# Altium footprint library BitCoin.PcbLib: 13 footprints
Each footprint in its own frame and in the unit in brackets; x right, y up, seen from the top. Pads: shape width x height; smd on the part's side, far side on the other; paste and mask are expansions set on the pad; w line width, h text height; cw(c..) or ccw(c..) is an arc to the next point about the centre after c.
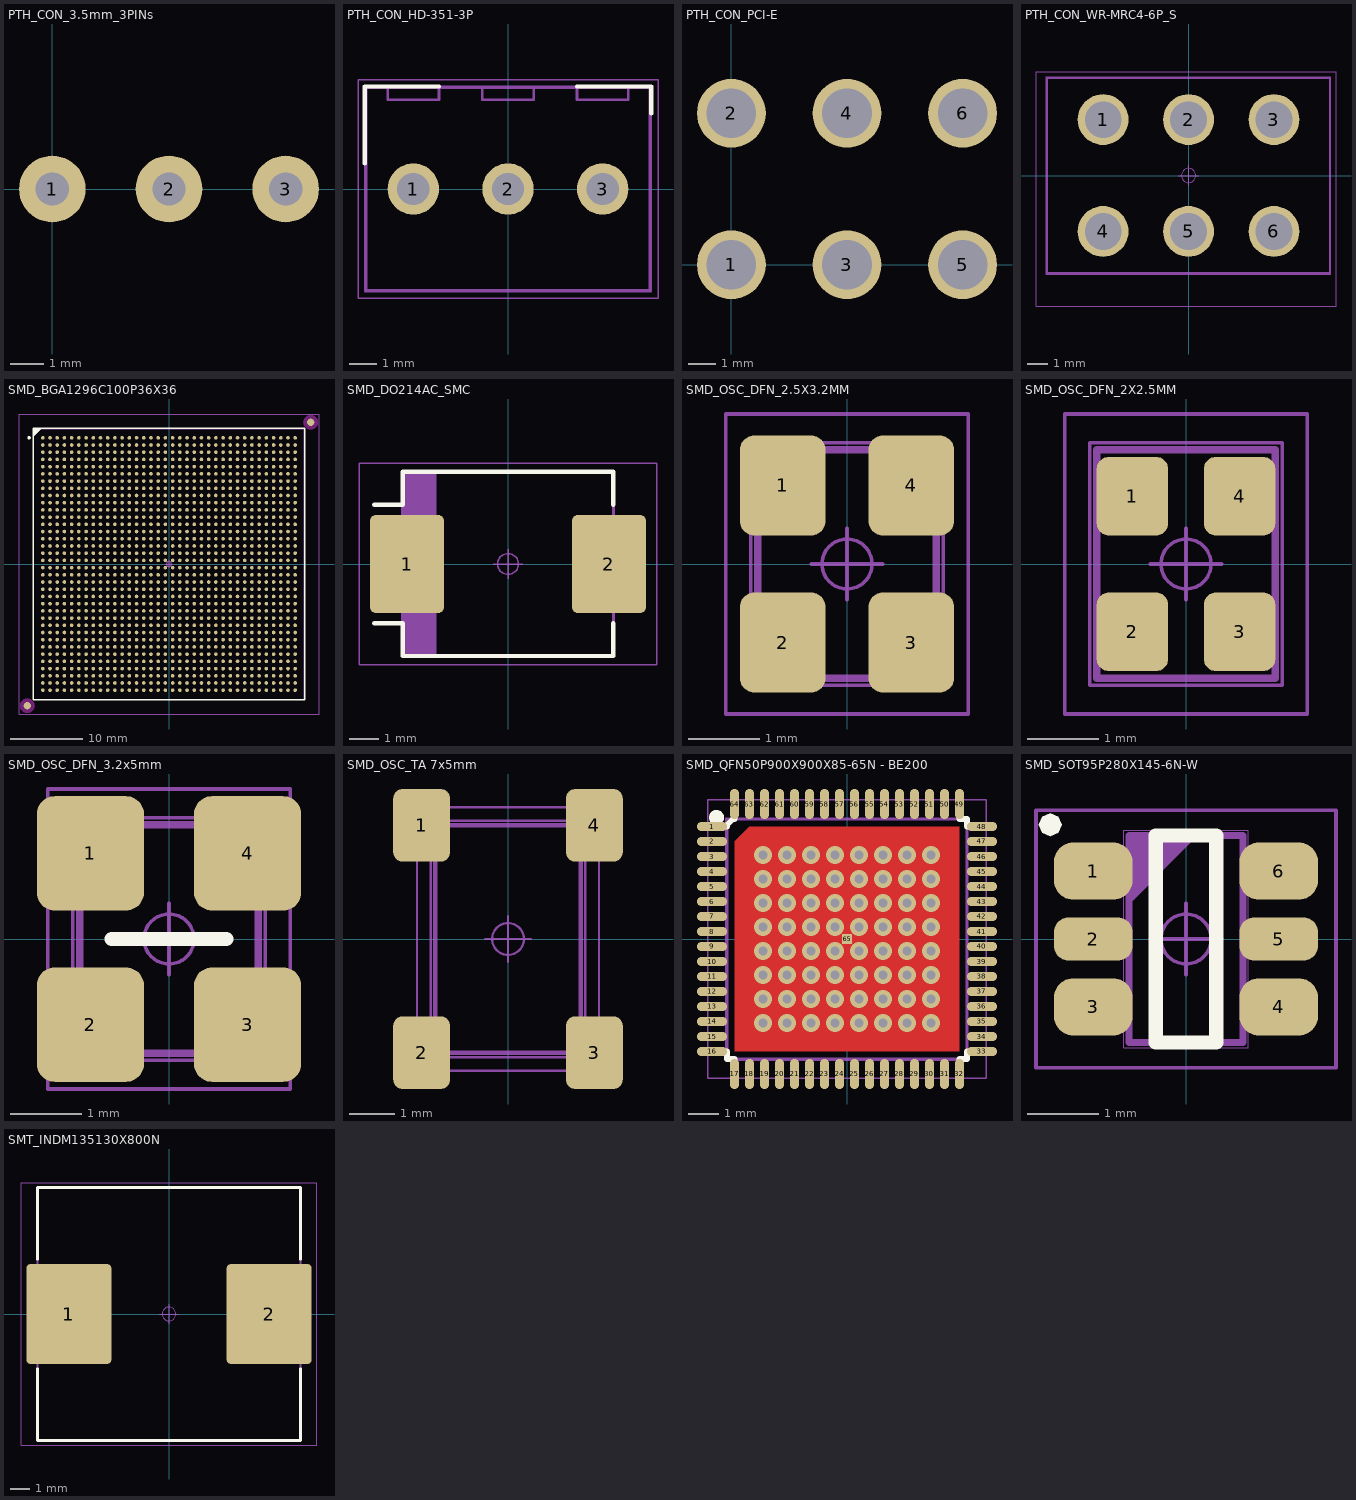
[diagram p0: the footprints below, top view; thin cyan lines are the x and y axes]

## PTH_CON_3.5mm_3PINs [mm]
pads (3):
  round 2 hole 1: 1(0,0) 2(3.5,0) 3(7,0)

## PTH_CON_HD-351-3P [mm]
height 8.6
pads (3):
  round 1.9 hole 1.2 mask+0.075: 1(-3.5,0) 2(0,0) 3(3.5,0)
Top Overlay:
  lines w0.15: -5.3,0.95 -5.3,3.8 -2.55,3.8 ; 2.55,3.8 5.3,3.8 5.3,2.8
Mechanical 3:
  lines w0.1: -5.25,-3.75 -5.25,3.75 5.25,3.75 5.25,-3.75 -5.25,-3.75 ; -4.45,3.3 -4.45,3.75 -2.55,3.75 -2.55,3.3 -4.45,3.3 ; -0.95,3.3 -0.95,3.75 0.95,3.75 0.95,3.3 -0.95,3.3 ; 2.55,3.3 2.55,3.75 4.45,3.75 4.45,3.3 2.55,3.3
  text ".Designator" at 0,-0.01 h1
  text "3" at 4.633,-0.3 h0.5
  text "1" at -4.91,-0.3 h0.5
Mechanical 13:
  lines w0.05: -5.3,-3.8 -5.3,3.8 5.3,3.8 5.3,-3.8 -5.3,-3.8
Mechanical 15:
  circle w0.05: c0,0 r0.3
  lines w0.05: -0.5,0 0.5,0 ; 0,-0.5 0,0.5 ; -5.55,-4.05 -5.55,4.05 5.55,4.05 5.55,-4.05 -5.55,-4.05
3D body: height 8.7, standoff -3.5, extent -5.25,-3.75 5.25,3.75

## PTH_CON_PCI-E [mm]
pads (6):
  round 2.5 hole 1.8 mask+0.075: 1(0,0) 2(0,5.5) 3(4.2,0) 4(4.2,5.5) 5(8.4,0) 6(8.4,5.5)
3D body: height 6.2, standoff -8.8, extent -3,-0.7 11.175,19.27

## PTH_CON_WR-MRC4-6P_S [mm]
height 10
pads (6):
  round 2.5 hole 1.8 mask+0.075: 1(-4.2,2.75) 2(0,2.75) 3(4.2,2.75) 4(-4.2,-2.75) 5(0,-2.75) 6(4.2,-2.75)
Mechanical 3:
  lines w0.1: -6.95,-4.8 -6.95,4.802 6.95,4.802 6.95,-4.8 -6.95,-4.8
  text "4" at -6.029,-2.55 h0.5
  text "3" at 5.583,2.4 h0.5
  text "6" at 5.595,-2.55 h0.5
  text "1" at -5.91,2.4 h0.5
  text ".Designator" at 0,0 h1
Mechanical 13:
  lines w0.05: -7,-4.85 -7,4.85 7,4.85 7,-4.85 -7,-4.85
Mechanical 15:
  circle w0.05: c0,0 r0.35
  lines w0.05: -0.5,0 0.5,0 ; 0,-0.5 0,0.5 ; -7.5,-6.425 -7.5,5.1 7.25,5.1 7.25,-6.425 -7.5,-6.425
3D body: height 12.8, standoff -3.5, extent -7.246,-6.298 6.95,4.802

## SMD_BGA1296C100P36X36 [mm]
height 1.4
pads (1298):
  round 0.5 smd mask+0.05: A1(-17.5,17.5) A2(-16.5,17.5) A3(-15.5,17.5) A4(-14.5,17.5) A5(-13.5,17.5) A6(-12.5,17.5) A7(-11.5,17.5) A8(-10.5,17.5) A9(-9.5,17.5) A10(-8.5,17.5) A11(-7.5,17.5) A12(-6.5,17.5) A13(-5.5,17.5) A14(-4.5,17.5) A15(-3.5,17.5) A16(-2.5,17.5) A17(-1.5,17.5) A18(-0.5,17.5) A19(0.5,17.5) A20(1.5,17.5) A21(2.5,17.5) A22(3.5,17.5) A23(4.5,17.5) A24(5.5,17.5) A25(6.5,17.5) A26(7.5,17.5) A27(8.5,17.5) A28(9.5,17.5) A29(10.5,17.5) A30(11.5,17.5) A31(12.5,17.5) A32(13.5,17.5) A33(14.5,17.5) A34(15.5,17.5) A35(16.5,17.5) A36(17.5,17.5) AA1(-17.5,-2.5) AA2(-16.5,-2.5) AA3(-15.5,-2.5) AA4(-14.5,-2.5) AA5(-13.5,-2.5) AA6(-12.5,-2.5) AA7(-11.5,-2.5) AA8(-10.5,-2.5) AA9(-9.5,-2.5) AA10(-8.5,-2.5) AA11(-7.5,-2.5) AA12(-6.5,-2.5) AA13(-5.5,-2.5) AA14(-4.5,-2.5) AA15(-3.5,-2.5) AA16(-2.5,-2.5) AA17(-1.5,-2.5) AA18(-0.5,-2.5) AA19(0.5,-2.5) AA20(1.5,-2.5) AA21(2.5,-2.5) AA22(3.5,-2.5) AA23(4.5,-2.5) AA24(5.5,-2.5) AA25(6.5,-2.5) AA26(7.5,-2.5) AA27(8.5,-2.5) AA28(9.5,-2.5) AA29(10.5,-2.5) AA30(11.5,-2.5) AA31(12.5,-2.5) AA32(13.5,-2.5) AA33(14.5,-2.5) AA34(15.5,-2.5) AA35(16.5,-2.5) AA36(17.5,-2.5) AB1(-17.5,-3.5) AB2(-16.5,-3.5) AB3(-15.5,-3.5) AB4(-14.5,-3.5) AB5(-13.5,-3.5) AB6(-12.5,-3.5) AB7(-11.5,-3.5) AB8(-10.5,-3.5) AB9(-9.5,-3.5) AB10(-8.5,-3.5) AB11(-7.5,-3.5) AB12(-6.5,-3.5) AB13(-5.5,-3.5) AB14(-4.5,-3.5) AB15(-3.5,-3.5) AB16(-2.5,-3.5) AB17(-1.5,-3.5) AB18(-0.5,-3.5) AB19(0.5,-3.5) AB20(1.5,-3.5) AB21(2.5,-3.5) AB22(3.5,-3.5) AB23(4.5,-3.5) AB24(5.5,-3.5) AB25(6.5,-3.5) AB26(7.5,-3.5) AB27(8.5,-3.5) AB28(9.5,-3.5) AB29(10.5,-3.5) AB30(11.5,-3.5) AB31(12.5,-3.5) AB32(13.5,-3.5) AB33(14.5,-3.5) AB34(15.5,-3.5) AB35(16.5,-3.5) AB36(17.5,-3.5) AC1(-17.5,-4.5) AC2(-16.5,-4.5) AC3(-15.5,-4.5) AC4(-14.5,-4.5) AC5(-13.5,-4.5) AC6(-12.5,-4.5) AC7(-11.5,-4.5) AC8(-10.5,-4.5) AC9(-9.5,-4.5) AC10(-8.5,-4.5) AC11(-7.5,-4.5) AC12(-6.5,-4.5) AC13(-5.5,-4.5) AC14(-4.5,-4.5) AC15(-3.5,-4.5) AC16(-2.5,-4.5) AC17(-1.5,-4.5) AC18(-0.5,-4.5) AC19(0.5,-4.5) AC20(1.5,-4.5) AC21(2.5,-4.5) AC22(3.5,-4.5) AC23(4.5,-4.5) AC24(5.5,-4.5) AC25(6.5,-4.5) AC26(7.5,-4.5) AC27(8.5,-4.5) AC28(9.5,-4.5) AC29(10.5,-4.5) AC30(11.5,-4.5) AC31(12.5,-4.5) AC32(13.5,-4.5) AC33(14.5,-4.5) AC34(15.5,-4.5) AC35(16.5,-4.5) AC36(17.5,-4.5) AD1(-17.5,-5.5) AD2(-16.5,-5.5) AD3(-15.5,-5.5) AD4(-14.5,-5.5) AD5(-13.5,-5.5) AD6(-12.5,-5.5) AD7(-11.5,-5.5) AD8(-10.5,-5.5) AD9(-9.5,-5.5) AD10(-8.5,-5.5) AD11(-7.5,-5.5) AD12(-6.5,-5.5) AD13(-5.5,-5.5) AD14(-4.5,-5.5) AD15(-3.5,-5.5) AD16(-2.5,-5.5) AD17(-1.5,-5.5) AD18(-0.5,-5.5) AD19(0.5,-5.5) AD20(1.5,-5.5) AD21(2.5,-5.5) AD22(3.5,-5.5) AD23(4.5,-5.5) AD24(5.5,-5.5) AD25(6.5,-5.5) AD26(7.5,-5.5) AD27(8.5,-5.5) AD28(9.5,-5.5) AD29(10.5,-5.5) AD30(11.5,-5.5) AD31(12.5,-5.5) AD32(13.5,-5.5) AD33(14.5,-5.5) AD34(15.5,-5.5) AD35(16.5,-5.5) AD36(17.5,-5.5) AE1(-17.5,-6.5) AE2(-16.5,-6.5) AE3(-15.5,-6.5) AE4(-14.5,-6.5) AE5(-13.5,-6.5) AE6(-12.5,-6.5) AE7(-11.5,-6.5) AE8(-10.5,-6.5) AE9(-9.5,-6.5) AE10(-8.5,-6.5) AE11(-7.5,-6.5) AE12(-6.5,-6.5) AE13(-5.5,-6.5) AE14(-4.5,-6.5) AE15(-3.5,-6.5) AE16(-2.5,-6.5) AE17(-1.5,-6.5) AE18(-0.5,-6.5) AE19(0.5,-6.5) AE20(1.5,-6.5) AE21(2.5,-6.5) AE22(3.5,-6.5) AE23(4.5,-6.5) AE24(5.5,-6.5) AE25(6.5,-6.5) AE26(7.5,-6.5) AE27(8.5,-6.5) AE28(9.5,-6.5) AE29(10.5,-6.5) AE30(11.5,-6.5) AE31(12.5,-6.5) AE32(13.5,-6.5) AE33(14.5,-6.5) AE34(15.5,-6.5) AE35(16.5,-6.5) AE36(17.5,-6.5) AF1(-17.5,-7.5) AF2(-16.5,-7.5) AF3(-15.5,-7.5) AF4(-14.5,-7.5) AF5(-13.5,-7.5) AF6(-12.5,-7.5) AF7(-11.5,-7.5) AF8(-10.5,-7.5) AF9(-9.5,-7.5) AF10(-8.5,-7.5) AF11(-7.5,-7.5) AF12(-6.5,-7.5) AF13(-5.5,-7.5) AF14(-4.5,-7.5) AF15(-3.5,-7.5) AF16(-2.5,-7.5) AF17(-1.5,-7.5) AF18(-0.5,-7.5) AF19(0.5,-7.5) AF20(1.5,-7.5) AF21(2.5,-7.5) AF22(3.5,-7.5) AF23(4.5,-7.5) AF24(5.5,-7.5) AF25(6.5,-7.5) AF26(7.5,-7.5) AF27(8.5,-7.5) AF28(9.5,-7.5) AF29(10.5,-7.5) AF30(11.5,-7.5) AF31(12.5,-7.5) AF32(13.5,-7.5) AF33(14.5,-7.5) AF34(15.5,-7.5) AF35(16.5,-7.5) AF36(17.5,-7.5) AG1(-17.5,-8.5) AG2(-16.5,-8.5) AG3(-15.5,-8.5) AG4(-14.5,-8.5) AG5(-13.5,-8.5) AG6(-12.5,-8.5) AG7(-11.5,-8.5) AG8(-10.5,-8.5) AG9(-9.5,-8.5) AG10(-8.5,-8.5) AG11(-7.5,-8.5) AG12(-6.5,-8.5) AG13(-5.5,-8.5) AG14(-4.5,-8.5) AG15(-3.5,-8.5) AG16(-2.5,-8.5) AG17(-1.5,-8.5) AG18(-0.5,-8.5) AG19(0.5,-8.5) AG20(1.5,-8.5) AG21(2.5,-8.5) AG22(3.5,-8.5) AG23(4.5,-8.5) AG24(5.5,-8.5) AG25(6.5,-8.5) AG26(7.5,-8.5) AG27(8.5,-8.5) AG28(9.5,-8.5) AG29(10.5,-8.5) AG30(11.5,-8.5) AG31(12.5,-8.5) AG32(13.5,-8.5) AG33(14.5,-8.5) AG34(15.5,-8.5) AG35(16.5,-8.5) AG36(17.5,-8.5) AH1(-17.5,-9.5) AH2(-16.5,-9.5) AH3(-15.5,-9.5) AH4(-14.5,-9.5) AH5(-13.5,-9.5) AH6(-12.5,-9.5) AH7(-11.5,-9.5) AH8(-10.5,-9.5) AH9(-9.5,-9.5) AH10(-8.5,-9.5) AH11(-7.5,-9.5) AH12(-6.5,-9.5) AH13(-5.5,-9.5) AH14(-4.5,-9.5) AH15(-3.5,-9.5) AH16(-2.5,-9.5) AH17(-1.5,-9.5) AH18(-0.5,-9.5) AH19(0.5,-9.5) AH20(1.5,-9.5) AH21(2.5,-9.5) AH22(3.5,-9.5) AH23(4.5,-9.5) AH24(5.5,-9.5) AH25(6.5,-9.5) AH26(7.5,-9.5) AH27(8.5,-9.5) AH28(9.5,-9.5) AH29(10.5,-9.5) AH30(11.5,-9.5) AH31(12.5,-9.5) AH32(13.5,-9.5) AH33(14.5,-9.5) AH34(15.5,-9.5) AH35(16.5,-9.5) AH36(17.5,-9.5) AJ1(-17.5,-10.5) AJ2(-16.5,-10.5) AJ3(-15.5,-10.5) AJ4(-14.5,-10.5) AJ5(-13.5,-10.5) AJ6(-12.5,-10.5) AJ7(-11.5,-10.5) AJ8(-10.5,-10.5) AJ9(-9.5,-10.5) AJ10(-8.5,-10.5) AJ11(-7.5,-10.5) AJ12(-6.5,-10.5) AJ13(-5.5,-10.5) AJ14(-4.5,-10.5) AJ15(-3.5,-10.5) AJ16(-2.5,-10.5) AJ17(-1.5,-10.5) AJ18(-0.5,-10.5) AJ19(0.5,-10.5) AJ20(1.5,-10.5) AJ21(2.5,-10.5) AJ22(3.5,-10.5) AJ23(4.5,-10.5) AJ24(5.5,-10.5) AJ25(6.5,-10.5) AJ26(7.5,-10.5) AJ27(8.5,-10.5) AJ28(9.5,-10.5) AJ29(10.5,-10.5) AJ30(11.5,-10.5) AJ31(12.5,-10.5) AJ32(13.5,-10.5) AJ33(14.5,-10.5) AJ34(15.5,-10.5) AJ35(16.5,-10.5) AJ36(17.5,-10.5) AK1(-17.5,-11.5) AK2(-16.5,-11.5) AK3(-15.5,-11.5) AK4(-14.5,-11.5) AK5(-13.5,-11.5) AK6(-12.5,-11.5) AK7(-11.5,-11.5) AK8(-10.5,-11.5) AK9(-9.5,-11.5) AK10(-8.5,-11.5) AK11(-7.5,-11.5) AK12(-6.5,-11.5) AK13(-5.5,-11.5) AK14(-4.5,-11.5) AK15(-3.5,-11.5) AK16(-2.5,-11.5) AK17(-1.5,-11.5) AK18(-0.5,-11.5) AK19(0.5,-11.5) AK20(1.5,-11.5) AK21(2.5,-11.5) AK22(3.5,-11.5) AK23(4.5,-11.5) AK24(5.5,-11.5) AK25(6.5,-11.5) AK26(7.5,-11.5) AK27(8.5,-11.5) AK28(9.5,-11.5) AK29(10.5,-11.5) AK30(11.5,-11.5) AK31(12.5,-11.5) AK32(13.5,-11.5) AK33(14.5,-11.5) AK34(15.5,-11.5) AK35(16.5,-11.5) AK36(17.5,-11.5) AL1(-17.5,-12.5) AL2(-16.5,-12.5) AL3(-15.5,-12.5) AL4(-14.5,-12.5) AL5(-13.5,-12.5) AL6(-12.5,-12.5) AL7(-11.5,-12.5) AL8(-10.5,-12.5) AL9(-9.5,-12.5) AL10(-8.5,-12.5) AL11(-7.5,-12.5) AL12(-6.5,-12.5) AL13(-5.5,-12.5) AL14(-4.5,-12.5) AL15(-3.5,-12.5) AL16(-2.5,-12.5) AL17(-1.5,-12.5) AL18(-0.5,-12.5) AL19(0.5,-12.5) AL20(1.5,-12.5) AL21(2.5,-12.5) AL22(3.5,-12.5) AL23(4.5,-12.5) AL24(5.5,-12.5) AL25(6.5,-12.5) AL26(7.5,-12.5) AL27(8.5,-12.5) AL28(9.5,-12.5) AL29(10.5,-12.5) AL30(11.5,-12.5) AL31(12.5,-12.5) AL32(13.5,-12.5) AL33(14.5,-12.5) AL34(15.5,-12.5) AL35(16.5,-12.5) AL36(17.5,-12.5) AM1(-17.5,-13.5) AM2(-16.5,-13.5) AM3(-15.5,-13.5) AM4(-14.5,-13.5) AM5(-13.5,-13.5) AM6(-12.5,-13.5) AM7(-11.5,-13.5) AM8(-10.5,-13.5) AM9(-9.5,-13.5) AM10(-8.5,-13.5) AM11(-7.5,-13.5) AM12(-6.5,-13.5) AM13(-5.5,-13.5) AM14(-4.5,-13.5) AM15(-3.5,-13.5) AM16(-2.5,-13.5) AM17(-1.5,-13.5) AM18(-0.5,-13.5) AM19(0.5,-13.5) AM20(1.5,-13.5) AM21(2.5,-13.5) AM22(3.5,-13.5) AM23(4.5,-13.5) AM24(5.5,-13.5) AM25(6.5,-13.5) AM26(7.5,-13.5) AM27(8.5,-13.5) AM28(9.5,-13.5) AM29(10.5,-13.5) AM30(11.5,-13.5) AM31(12.5,-13.5) AM32(13.5,-13.5) AM33(14.5,-13.5) AM34(15.5,-13.5) AM35(16.5,-13.5) AM36(17.5,-13.5) AN1(-17.5,-14.5) AN2(-16.5,-14.5) AN3(-15.5,-14.5) AN4(-14.5,-14.5) AN5(-13.5,-14.5) AN6(-12.5,-14.5) AN7(-11.5,-14.5) AN8(-10.5,-14.5) AN9(-9.5,-14.5) AN10(-8.5,-14.5) AN11(-7.5,-14.5) AN12(-6.5,-14.5) AN13(-5.5,-14.5) AN14(-4.5,-14.5) AN15(-3.5,-14.5) AN16(-2.5,-14.5) AN17(-1.5,-14.5) AN18(-0.5,-14.5) AN19(0.5,-14.5) AN20(1.5,-14.5) AN21(2.5,-14.5) AN22(3.5,-14.5) AN23(4.5,-14.5) AN24(5.5,-14.5) AN25(6.5,-14.5) AN26(7.5,-14.5) AN27(8.5,-14.5) AN28(9.5,-14.5) AN29(10.5,-14.5) AN30(11.5,-14.5) AN31(12.5,-14.5) AN32(13.5,-14.5) AN33(14.5,-14.5) AN34(15.5,-14.5) AN35(16.5,-14.5) AN36(17.5,-14.5) AP1(-17.5,-15.5) AP2(-16.5,-15.5) AP3(-15.5,-15.5) AP4(-14.5,-15.5) AP5(-13.5,-15.5) AP6(-12.5,-15.5) AP7(-11.5,-15.5) AP8(-10.5,-15.5) AP9(-9.5,-15.5) AP10(-8.5,-15.5) AP11(-7.5,-15.5) AP12(-6.5,-15.5) AP13(-5.5,-15.5) AP14(-4.5,-15.5) AP15(-3.5,-15.5) AP16(-2.5,-15.5) AP17(-1.5,-15.5) AP18(-0.5,-15.5) AP19(0.5,-15.5) AP20(1.5,-15.5) AP21(2.5,-15.5) AP22(3.5,-15.5) AP23(4.5,-15.5) AP24(5.5,-15.5) AP25(6.5,-15.5) AP26(7.5,-15.5) AP27(8.5,-15.5) AP28(9.5,-15.5) AP29(10.5,-15.5) AP30(11.5,-15.5) AP31(12.5,-15.5) AP32(13.5,-15.5) AP33(14.5,-15.5) AP34(15.5,-15.5) AP35(16.5,-15.5) AP36(17.5,-15.5) AR1(-17.5,-16.5) AR2(-16.5,-16.5) AR3(-15.5,-16.5) AR4(-14.5,-16.5) AR5(-13.5,-16.5) AR6(-12.5,-16.5) AR7(-11.5,-16.5) AR8(-10.5,-16.5) AR9(-9.5,-16.5) AR10(-8.5,-16.5) AR11(-7.5,-16.5) AR12(-6.5,-16.5) AR13(-5.5,-16.5) AR14(-4.5,-16.5) AR15(-3.5,-16.5) AR16(-2.5,-16.5) AR17(-1.5,-16.5) AR18(-0.5,-16.5) AR19(0.5,-16.5) AR20(1.5,-16.5) AR21(2.5,-16.5) AR22(3.5,-16.5) AR23(4.5,-16.5) AR24(5.5,-16.5) AR25(6.5,-16.5) AR26(7.5,-16.5) AR27(8.5,-16.5) AR28(9.5,-16.5) AR29(10.5,-16.5) AR30(11.5,-16.5) AR31(12.5,-16.5) AR32(13.5,-16.5) AR33(14.5,-16.5) AR34(15.5,-16.5) AR35(16.5,-16.5) AR36(17.5,-16.5) AT1(-17.5,-17.5) AT2(-16.5,-17.5) AT3(-15.5,-17.5) AT4(-14.5,-17.5) AT5(-13.5,-17.5) AT6(-12.5,-17.5) AT7(-11.5,-17.5) AT8(-10.5,-17.5) AT9(-9.5,-17.5) AT10(-8.5,-17.5) AT11(-7.5,-17.5) AT12(-6.5,-17.5) AT13(-5.5,-17.5) AT14(-4.5,-17.5) AT15(-3.5,-17.5) AT16(-2.5,-17.5) AT17(-1.5,-17.5) AT18(-0.5,-17.5) AT19(0.5,-17.5) AT20(1.5,-17.5) AT21(2.5,-17.5) AT22(3.5,-17.5) AT23(4.5,-17.5) AT24(5.5,-17.5) AT25(6.5,-17.5) AT26(7.5,-17.5) AT27(8.5,-17.5) AT28(9.5,-17.5) AT29(10.5,-17.5) AT30(11.5,-17.5) AT31(12.5,-17.5) AT32(13.5,-17.5) AT33(14.5,-17.5) AT34(15.5,-17.5) AT35(16.5,-17.5) AT36(17.5,-17.5) B1(-17.5,16.5) B2(-16.5,16.5) B3(-15.5,16.5) B4(-14.5,16.5) B5(-13.5,16.5) B6(-12.5,16.5) B7(-11.5,16.5) B8(-10.5,16.5) B9(-9.5,16.5) B10(-8.5,16.5) B11(-7.5,16.5) B12(-6.5,16.5) B13(-5.5,16.5) B14(-4.5,16.5) B15(-3.5,16.5) B16(-2.5,16.5) B17(-1.5,16.5) B18(-0.5,16.5) B19(0.5,16.5) B20(1.5,16.5) B21(2.5,16.5) B22(3.5,16.5) B23(4.5,16.5) B24(5.5,16.5) B25(6.5,16.5) B26(7.5,16.5) B27(8.5,16.5) B28(9.5,16.5) B29(10.5,16.5) B30(11.5,16.5) B31(12.5,16.5) B32(13.5,16.5) B33(14.5,16.5) B34(15.5,16.5) B35(16.5,16.5) B36(17.5,16.5) C1(-17.5,15.5) C2(-16.5,15.5) C3(-15.5,15.5) C4(-14.5,15.5) C5(-13.5,15.5) C6(-12.5,15.5) C7(-11.5,15.5) C8(-10.5,15.5) C9(-9.5,15.5) C10(-8.5,15.5) C11(-7.5,15.5) C12(-6.5,15.5) C13(-5.5,15.5) C14(-4.5,15.5) C15(-3.5,15.5) C16(-2.5,15.5) C17(-1.5,15.5) C18(-0.5,15.5) C19(0.5,15.5) C20(1.5,15.5) C21(2.5,15.5) C22(3.5,15.5) C23(4.5,15.5) C24(5.5,15.5) C25(6.5,15.5) C26(7.5,15.5) C27(8.5,15.5) C28(9.5,15.5) C29(10.5,15.5) C30(11.5,15.5) C31(12.5,15.5) C32(13.5,15.5) C33(14.5,15.5) C34(15.5,15.5) C35(16.5,15.5) C36(17.5,15.5) D1(-17.5,14.5) D2(-16.5,14.5) D3(-15.5,14.5) D4(-14.5,14.5) D5(-13.5,14.5) D6(-12.5,14.5) D7(-11.5,14.5) D8(-10.5,14.5) D9(-9.5,14.5) D10(-8.5,14.5) D11(-7.5,14.5) D12(-6.5,14.5) D13(-5.5,14.5) D14(-4.5,14.5) D15(-3.5,14.5) D16(-2.5,14.5) D17(-1.5,14.5) D18(-0.5,14.5) D19(0.5,14.5) D20(1.5,14.5) D21(2.5,14.5) D22(3.5,14.5) D23(4.5,14.5) D24(5.5,14.5) D25(6.5,14.5) D26(7.5,14.5) D27(8.5,14.5) D28(9.5,14.5) D29(10.5,14.5) D30(11.5,14.5) D31(12.5,14.5) D32(13.5,14.5) D33(14.5,14.5) D34(15.5,14.5) D35(16.5,14.5) D36(17.5,14.5) E1(-17.5,13.5) E2(-16.5,13.5) E3(-15.5,13.5) E4(-14.5,13.5) E5(-13.5,13.5) E6(-12.5,13.5) E7(-11.5,13.5) E8(-10.5,13.5) E9(-9.5,13.5) E10(-8.5,13.5) E11(-7.5,13.5) E12(-6.5,13.5) E13(-5.5,13.5) E14(-4.5,13.5) E15(-3.5,13.5) E16(-2.5,13.5) E17(-1.5,13.5) E18(-0.5,13.5) E19(0.5,13.5) E20(1.5,13.5) E21(2.5,13.5) E22(3.5,13.5) E23(4.5,13.5) E24(5.5,13.5) E25(6.5,13.5) E26(7.5,13.5) E27(8.5,13.5) E28(9.5,13.5) E29(10.5,13.5) E30(11.5,13.5) E31(12.5,13.5) E32(13.5,13.5) E33(14.5,13.5) E34(15.5,13.5) E35(16.5,13.5) E36(17.5,13.5) F1(-17.5,12.5) F2(-16.5,12.5) F3(-15.5,12.5) F4(-14.5,12.5) F5(-13.5,12.5) F6(-12.5,12.5) F7(-11.5,12.5) F8(-10.5,12.5) F9(-9.5,12.5) F10(-8.5,12.5) F11(-7.5,12.5) F12(-6.5,12.5) F13(-5.5,12.5) F14(-4.5,12.5) F15(-3.5,12.5) F16(-2.5,12.5) F17(-1.5,12.5) F18(-0.5,12.5) F19(0.5,12.5) F20(1.5,12.5) F21(2.5,12.5) F22(3.5,12.5) F23(4.5,12.5) F24(5.5,12.5) F25(6.5,12.5) F26(7.5,12.5) F27(8.5,12.5) F28(9.5,12.5) F29(10.5,12.5) F30(11.5,12.5) F31(12.5,12.5) F32(13.5,12.5) F33(14.5,12.5) F34(15.5,12.5) F35(16.5,12.5) F36(17.5,12.5) G1(-17.5,11.5) G2(-16.5,11.5) G3(-15.5,11.5) G4(-14.5,11.5) G5(-13.5,11.5) G6(-12.5,11.5) G7(-11.5,11.5) G8(-10.5,11.5) G9(-9.5,11.5) G10(-8.5,11.5) G11(-7.5,11.5) G12(-6.5,11.5) G13(-5.5,11.5) G14(-4.5,11.5) G15(-3.5,11.5) G16(-2.5,11.5) G17(-1.5,11.5) G18(-0.5,11.5) G19(0.5,11.5) G20(1.5,11.5) G21(2.5,11.5) G22(3.5,11.5) G23(4.5,11.5) G24(5.5,11.5) G25(6.5,11.5) G26(7.5,11.5) G27(8.5,11.5) G28(9.5,11.5) G29(10.5,11.5) G30(11.5,11.5) G31(12.5,11.5) G32(13.5,11.5) G33(14.5,11.5) G34(15.5,11.5) G35(16.5,11.5) G36(17.5,11.5) H1(-17.5,10.5) H2(-16.5,10.5) H3(-15.5,10.5) H4(-14.5,10.5) H5(-13.5,10.5) H6(-12.5,10.5) H7(-11.5,10.5) H8(-10.5,10.5) H9(-9.5,10.5) H10(-8.5,10.5) H11(-7.5,10.5) H12(-6.5,10.5) H13(-5.5,10.5) H14(-4.5,10.5) H15(-3.5,10.5) H16(-2.5,10.5) H17(-1.5,10.5) H18(-0.5,10.5) H19(0.5,10.5) H20(1.5,10.5) H21(2.5,10.5) H22(3.5,10.5) H23(4.5,10.5) H24(5.5,10.5) H25(6.5,10.5) H26(7.5,10.5) H27(8.5,10.5) H28(9.5,10.5) H29(10.5,10.5) H30(11.5,10.5) H31(12.5,10.5) H32(13.5,10.5) H33(14.5,10.5) H34(15.5,10.5) H35(16.5,10.5) H36(17.5,10.5) J1(-17.5,9.5) J2(-16.5,9.5) J3(-15.5,9.5) J4(-14.5,9.5) J5(-13.5,9.5) J6(-12.5,9.5) J7(-11.5,9.5) J8(-10.5,9.5) J9(-9.5,9.5) J10(-8.5,9.5) J11(-7.5,9.5) J12(-6.5,9.5) J13(-5.5,9.5) J14(-4.5,9.5) J15(-3.5,9.5) J16(-2.5,9.5) J17(-1.5,9.5) J18(-0.5,9.5) J19(0.5,9.5) J20(1.5,9.5) J21(2.5,9.5) J22(3.5,9.5) J23(4.5,9.5) J24(5.5,9.5) J25(6.5,9.5) J26(7.5,9.5) J27(8.5,9.5) J28(9.5,9.5) J29(10.5,9.5) J30(11.5,9.5) J31(12.5,9.5) J32(13.5,9.5) J33(14.5,9.5) J34(15.5,9.5) J35(16.5,9.5) J36(17.5,9.5) K1(-17.5,8.5) K2(-16.5,8.5) K3(-15.5,8.5) K4(-14.5,8.5) K5(-13.5,8.5) K6(-12.5,8.5) K7(-11.5,8.5) K8(-10.5,8.5) K9(-9.5,8.5) K10(-8.5,8.5) K11(-7.5,8.5) K12(-6.5,8.5) K13(-5.5,8.5) K14(-4.5,8.5) K15(-3.5,8.5) K16(-2.5,8.5) K17(-1.5,8.5) K18(-0.5,8.5) K19(0.5,8.5) K20(1.5,8.5) K21(2.5,8.5) K22(3.5,8.5) K23(4.5,8.5) K24(5.5,8.5) K25(6.5,8.5) K26(7.5,8.5) K27(8.5,8.5) K28(9.5,8.5) K29(10.5,8.5) K30(11.5,8.5) K31(12.5,8.5) K32(13.5,8.5) K33(14.5,8.5) K34(15.5,8.5) K35(16.5,8.5) K36(17.5,8.5) L1(-17.5,7.5) L2(-16.5,7.5) L3(-15.5,7.5) L4(-14.5,7.5) L5(-13.5,7.5) L6(-12.5,7.5) L7(-11.5,7.5) L8(-10.5,7.5) L9(-9.5,7.5) L10(-8.5,7.5) L11(-7.5,7.5) L12(-6.5,7.5) L13(-5.5,7.5) L14(-4.5,7.5) L15(-3.5,7.5) L16(-2.5,7.5) L17(-1.5,7.5) L18(-0.5,7.5) L19(0.5,7.5) L20(1.5,7.5) L21(2.5,7.5) L22(3.5,7.5) L23(4.5,7.5) L24(5.5,7.5) L25(6.5,7.5) L26(7.5,7.5) L27(8.5,7.5) L28(9.5,7.5) L29(10.5,7.5) L30(11.5,7.5) L31(12.5,7.5) L32(13.5,7.5) L33(14.5,7.5) L34(15.5,7.5) L35(16.5,7.5) L36(17.5,7.5) M1(-17.5,6.5) M2(-16.5,6.5) M3(-15.5,6.5) M4(-14.5,6.5) M5(-13.5,6.5) M6(-12.5,6.5) M7(-11.5,6.5) M8(-10.5,6.5) M9(-9.5,6.5) M10(-8.5,6.5) M11(-7.5,6.5) M12(-6.5,6.5) M13(-5.5,6.5) M14(-4.5,6.5) M15(-3.5,6.5) M16(-2.5,6.5) M17(-1.5,6.5) M18(-0.5,6.5) M19(0.5,6.5) M20(1.5,6.5) M21(2.5,6.5) M22(3.5,6.5) M23(4.5,6.5) M24(5.5,6.5) M25(6.5,6.5) M26(7.5,6.5) M27(8.5,6.5) M28(9.5,6.5) M29(10.5,6.5) M30(11.5,6.5) M31(12.5,6.5) M32(13.5,6.5) M33(14.5,6.5) M34(15.5,6.5) M35(16.5,6.5) M36(17.5,6.5) N1(-17.5,5.5) N2(-16.5,5.5) N3(-15.5,5.5) N4(-14.5,5.5) N5(-13.5,5.5) N6(-12.5,5.5) N7(-11.5,5.5) N8(-10.5,5.5) N9(-9.5,5.5) N10(-8.5,5.5) N11(-7.5,5.5) N12(-6.5,5.5) N13(-5.5,5.5) N14(-4.5,5.5) N15(-3.5,5.5) N16(-2.5,5.5) N17(-1.5,5.5) N18(-0.5,5.5) N19(0.5,5.5) N20(1.5,5.5) N21(2.5,5.5) N22(3.5,5.5) N23(4.5,5.5) N24(5.5,5.5) N25(6.5,5.5) N26(7.5,5.5) N27(8.5,5.5) N28(9.5,5.5) N29(10.5,5.5) N30(11.5,5.5) N31(12.5,5.5) N32(13.5,5.5) N33(14.5,5.5) N34(15.5,5.5) N35(16.5,5.5) N36(17.5,5.5) P1(-17.5,4.5) P2(-16.5,4.5) P3(-15.5,4.5) P4(-14.5,4.5) P5(-13.5,4.5) P6(-12.5,4.5) P7(-11.5,4.5) P8(-10.5,4.5) P9(-9.5,4.5) P10(-8.5,4.5) P11(-7.5,4.5) P12(-6.5,4.5) P13(-5.5,4.5) P14(-4.5,4.5) P15(-3.5,4.5) P16(-2.5,4.5) P17(-1.5,4.5) P18(-0.5,4.5) P19(0.5,4.5) P20(1.5,4.5) P21(2.5,4.5) P22(3.5,4.5) P23(4.5,4.5) P24(5.5,4.5) P25(6.5,4.5) P26(7.5,4.5) P27(8.5,4.5) P28(9.5,4.5) P29(10.5,4.5) P30(11.5,4.5) P31(12.5,4.5) P32(13.5,4.5) P33(14.5,4.5) P34(15.5,4.5) P35(16.5,4.5) P36(17.5,4.5) R1(-17.5,3.5) R2(-16.5,3.5) R3(-15.5,3.5) R4(-14.5,3.5) R5(-13.5,3.5) R6(-12.5,3.5) R7(-11.5,3.5) R8(-10.5,3.5) R9(-9.5,3.5) R10(-8.5,3.5) R11(-7.5,3.5) R12(-6.5,3.5) R13(-5.5,3.5) R14(-4.5,3.5) R15(-3.5,3.5) R16(-2.5,3.5) R17(-1.5,3.5) R18(-0.5,3.5) R19(0.5,3.5) R20(1.5,3.5) R21(2.5,3.5) R22(3.5,3.5) R23(4.5,3.5) R24(5.5,3.5) R25(6.5,3.5) R26(7.5,3.5) R27(8.5,3.5) R28(9.5,3.5) R29(10.5,3.5) R30(11.5,3.5) R31(12.5,3.5) R32(13.5,3.5) R33(14.5,3.5) R34(15.5,3.5) R35(16.5,3.5) R36(17.5,3.5) T1(-17.5,2.5) T2(-16.5,2.5) T3(-15.5,2.5) T4(-14.5,2.5) T5(-13.5,2.5) T6(-12.5,2.5) T7(-11.5,2.5) T8(-10.5,2.5) T9(-9.5,2.5) T10(-8.5,2.5) T11(-7.5,2.5) T12(-6.5,2.5) T13(-5.5,2.5) T14(-4.5,2.5) T15(-3.5,2.5) T16(-2.5,2.5) T17(-1.5,2.5) T18(-0.5,2.5) T19(0.5,2.5) T20(1.5,2.5) T21(2.5,2.5) T22(3.5,2.5) T23(4.5,2.5) T24(5.5,2.5) T25(6.5,2.5) T26(7.5,2.5) T27(8.5,2.5) T28(9.5,2.5) T29(10.5,2.5) T30(11.5,2.5) T31(12.5,2.5) T32(13.5,2.5) T33(14.5,2.5) T34(15.5,2.5) T35(16.5,2.5) T36(17.5,2.5) U1(-17.5,1.5) U2(-16.5,1.5) U3(-15.5,1.5) U4(-14.5,1.5) U5(-13.5,1.5) U6(-12.5,1.5) U7(-11.5,1.5) U8(-10.5,1.5) U9(-9.5,1.5) U10(-8.5,1.5) U11(-7.5,1.5) U12(-6.5,1.5) U13(-5.5,1.5) U14(-4.5,1.5) U15(-3.5,1.5) U16(-2.5,1.5) U17(-1.5,1.5) U18(-0.5,1.5) U19(0.5,1.5) U20(1.5,1.5) U21(2.5,1.5) U22(3.5,1.5) U23(4.5,1.5) U24(5.5,1.5) U25(6.5,1.5) U26(7.5,1.5) U27(8.5,1.5) U28(9.5,1.5) U29(10.5,1.5) U30(11.5,1.5) U31(12.5,1.5) U32(13.5,1.5) U33(14.5,1.5) U34(15.5,1.5) U35(16.5,1.5) U36(17.5,1.5) V1(-17.5,0.5) V2(-16.5,0.5) V3(-15.5,0.5) V4(-14.5,0.5) V5(-13.5,0.5) V6(-12.5,0.5) V7(-11.5,0.5) V8(-10.5,0.5) V9(-9.5,0.5) V10(-8.5,0.5) V11(-7.5,0.5) V12(-6.5,0.5) V13(-5.5,0.5) V14(-4.5,0.5) V15(-3.5,0.5) V16(-2.5,0.5) V17(-1.5,0.5) V18(-0.5,0.5) V19(0.5,0.5) V20(1.5,0.5) V21(2.5,0.5) V22(3.5,0.5) V23(4.5,0.5) V24(5.5,0.5) V25(6.5,0.5) V26(7.5,0.5) V27(8.5,0.5) V28(9.5,0.5) V29(10.5,0.5) V30(11.5,0.5) V31(12.5,0.5) V32(13.5,0.5) V33(14.5,0.5) V34(15.5,0.5) V35(16.5,0.5) V36(17.5,0.5) W1(-17.5,-0.5) W2(-16.5,-0.5) W3(-15.5,-0.5) W4(-14.5,-0.5) W5(-13.5,-0.5) W6(-12.5,-0.5) W7(-11.5,-0.5) W8(-10.5,-0.5) W9(-9.5,-0.5) W10(-8.5,-0.5) W11(-7.5,-0.5) W12(-6.5,-0.5) W13(-5.5,-0.5) W14(-4.5,-0.5) W15(-3.5,-0.5) W16(-2.5,-0.5) W17(-1.5,-0.5) W18(-0.5,-0.5) W19(0.5,-0.5) W20(1.5,-0.5) W21(2.5,-0.5) W22(3.5,-0.5) W23(4.5,-0.5) W24(5.5,-0.5) W25(6.5,-0.5) W26(7.5,-0.5) W27(8.5,-0.5) W28(9.5,-0.5) W29(10.5,-0.5) W30(11.5,-0.5) W31(12.5,-0.5) W32(13.5,-0.5) W33(14.5,-0.5) W34(15.5,-0.5) W35(16.5,-0.5) W36(17.5,-0.5) Y1(-17.5,-1.5) Y2(-16.5,-1.5) Y3(-15.5,-1.5) Y4(-14.5,-1.5) Y5(-13.5,-1.5) Y6(-12.5,-1.5) Y7(-11.5,-1.5) Y8(-10.5,-1.5) Y9(-9.5,-1.5) Y10(-8.5,-1.5) Y11(-7.5,-1.5) Y12(-6.5,-1.5) Y13(-5.5,-1.5) Y14(-4.5,-1.5) Y15(-3.5,-1.5) Y16(-2.5,-1.5) Y17(-1.5,-1.5) Y18(-0.5,-1.5) Y19(0.5,-1.5) Y20(1.5,-1.5) Y21(2.5,-1.5) Y22(3.5,-1.5) Y23(4.5,-1.5) Y24(5.5,-1.5) Y25(6.5,-1.5) Y26(7.5,-1.5) Y27(8.5,-1.5) Y28(9.5,-1.5) Y29(10.5,-1.5) Y30(11.5,-1.5) Y31(12.5,-1.5) Y32(13.5,-1.5) Y33(14.5,-1.5) Y34(15.5,-1.5) Y35(16.5,-1.5) Y36(17.5,-1.5)
  round 1 smd mask+0.5: FID1(-19.65,-19.65) FID2(19.65,19.65)
Top Layer keep-out:
  region: -18.641,-19.65 -18.676,-19.389 -18.777,-19.146 -18.937,-18.937 -19.146,-18.777 -19.389,-18.676 -19.65,-18.641 -19.911,-18.676 -20.154,-18.777 -20.363,-18.937 -20.523,-19.146 -20.624,-19.389 -20.659,-19.65 -20.624,-19.911 -20.523,-20.154 -20.363,-20.363 -20.154,-20.523 -19.911,-20.624 -19.65,-20.659 -19.389,-20.624 -19.146,-20.523 -18.937,-20.363 -18.777,-20.154 -18.676,-19.911
  region: 20.659,19.65 20.624,19.911 20.523,20.154 20.363,20.363 20.154,20.523 19.911,20.624 19.65,20.659 19.389,20.624 19.146,20.523 18.937,20.363 18.777,20.154 18.676,19.911 18.641,19.65 18.676,19.389 18.777,19.146 18.937,18.937 19.146,18.777 19.389,18.676 19.65,18.641 19.911,18.676 20.154,18.777 20.363,18.937 20.523,19.146 20.624,19.389
Top Overlay:
  circle w0.25: c-19.4,17.5 r0.125
  lines w0.2: -18.8,17.8 -17.8,18.8 ; -18.8,18 -18,18.8 ; -18.8,18.2 -18.2,18.8 ; -18.8,18.4 -18.4,18.8 ; -18.8,18.6 -18.6,18.8 ; -18.8,-18.8 -18.8,18.8 18.8,18.8 18.8,-18.8 -18.8,-18.8
Mechanical 3:
  lines w0.1: -18.75,17.75 -17.75,18.75 ; -18.75,17.85 -17.85,18.75 ; -18.75,17.95 -17.95,18.75 ; -18.75,18.05 -18.05,18.75 ; -18.75,18.15 -18.15,18.75 ; -18.75,18.25 -18.25,18.75 ; -18.75,18.35 -18.35,18.75 ; -18.75,18.45 -18.45,18.75 ; -18.75,18.55 -18.55,18.75 ; -18.75,18.65 -18.65,18.75 ; -18.75,-18.75 -18.75,18.75 18.75,18.75 18.75,-18.75 -18.75,-18.75
  text ".Designator" at 0,0 h1
Mechanical 13:
  lines w0.05: -18.75,-18.75 -18.75,18.75 18.75,18.75 18.75,-18.75 -18.75,-18.75
Mechanical 15:
  circle w0.05: c0,0 r0.35
  lines w0.05: -0.5,0 0.5,0 ; 0,-0.5 0,0.5 ; -20.8,-20.8 -20.8,20.8 20.8,20.8 20.8,-20.8 -20.8,-20.8
3D body: height 1.4, standoff 0, extent -18.775,-18.775 18.775,18.775

## SMD_DO214AC_SMC [mm]
height 2.65
pads (2):
  rrect16% 2.5x3.3 smd mask+0.075: 1(-3.4,0) 2(3.4,0)
Top Overlay:
  lines w0.15: -4.5,-1.997 -3.55,-1.997 -3.55,-3.097 3.55,-3.097 3.55,-1.997 ; -4.5,2 -3.55,2 -3.55,3.1 3.55,3.1 3.55,2
Mechanical 3:
  lines w0.1: -3.55,-3.1 -3.55,3.1 ; -3.55,-3.1 -3.45,-3.1 -3.45,3.1 -3.55,3.1 ; -3.55,-3.1 -3.55,3.1 ; -3.55,-3.1 3.55,-3.1 3.55,3.1 -3.55,3.1 ; -3.35,-3.1 -3.35,3.1 -3.25,3.1 -3.25,-3.1 -3.35,-3.1 ; -3.15,-3.1 -3.15,3.1 -3.05,3.1 -3.05,-3.1 -3.15,-3.1 ; -2.95,-3.1 -2.95,3.1 -2.85,3.1 -2.85,-3.1 -2.95,-3.1 ; -2.75,-3.1 -2.75,3.1 -2.65,3.1 -2.65,-3.1 -2.75,-3.1 ; -2.55,-3.1 -2.55,3.1 -2.45,3.1 -2.45,-3.1 -2.55,-3.1
  text ".Designator" at 0,0 h1
Mechanical 13:
  lines w0.05: -3.55,-3.1 -3.55,3.1 3.55,3.1 3.55,-3.1 -3.55,-3.1
Mechanical 15:
  circle w0.05: c0,0 r0.35
  lines w0.05: -0.5,0 0.5,0 ; 0,-0.5 0,0.5 ; -5,-3.4 -5,3.4 5,3.4 5,-3.4 -5,-3.4
3D body: height 2.62, standoff 0, extent -4.065,-3.11 4.065,3.11

## SMD_OSC_DFN_2.5X3.2MM [mm]
height 1
pads (4):
  rrect33% 1.2x1.4 smd mask+0.075: 1(-0.9,1.1) 2(-0.9,-1.1) 3(0.9,-1.1) 4(0.9,1.1)
Mechanical 3:
  lines w0.1: -1.25,-1.6 1.25,-1.6 1.25,1.6 -1.25,1.6 -1.25,-1.6
  text ".Designator" at 0,0 h1
Mechanical 13:
  lines w0.05: -1.35,-1.7 1.35,-1.7 1.35,1.7 -1.35,1.7 -1.35,-1.7
Mechanical 15:
  circle w0.05: c0,0 r0.35
  lines w0.05: -0.5,0 0.5,0 ; 0,-0.5 0,0.5 ; -1.7,-2.1 1.7,-2.1 1.7,2.1 -1.7,2.1 -1.7,-2.1
3D body: height 1, standoff 0, extent -1.25,-1.6 1.25,1.6

## SMD_OSC_DFN_2X2.5MM [mm]
height 1
pads (4):
  rrect33% 1x1.1 smd mask+0.075: 1(-0.75,0.95) 2(-0.75,-0.95) 3(0.75,-0.95) 4(0.75,0.95)
Mechanical 3:
  lines w0.1: -1.25,-1.6 -1.25,1.6 1.25,1.6 1.25,-1.6 -1.25,-1.6
  text ".Designator" at 0,0 h1
Mechanical 13:
  lines w0.05: -1.35,-1.7 -1.35,1.7 1.35,1.7 1.35,-1.7 -1.35,-1.7
Mechanical 15:
  circle w0.05: c0,0 r0.35
  lines w0.05: -0.5,0 0.5,0 ; 0,-0.5 0,0.5 ; -1.7,-2.1 -1.7,2.1 1.7,2.1 1.7,-2.1 -1.7,-2.1
3D body: height 1, standoff 0, extent -1.25,-1.6 1.25,1.6

## SMD_OSC_DFN_3.2x5mm [mm]
pads (4):
  rrect33% 1.5x1.6 smd mask+0.075: 1(-1.1,1.2) 2(-1.1,-1.2) 3(1.1,-1.2) 4(1.1,1.2)
Top Overlay:
  lines w0.2: -0.8,0 0.8,0
Mechanical 3:
  lines w0.1: -1.25,-1.6 -1.25,1.6 1.25,1.6 1.25,-1.6 -1.25,-1.6
  text ".Designator" at 0,0 h1
Mechanical 13:
  lines w0.05: -1.35,-1.7 -1.35,1.7 1.35,1.7 1.35,-1.7 -1.35,-1.7
Mechanical 15:
  circle w0.05: c0,0 r0.35
  lines w0.05: -0.5,0 0.5,0 ; 0,-0.5 0,0.5 ; -1.7,-2.1 -1.7,2.1 1.7,2.1 1.7,-2.1 -1.7,-2.1
3D body: height 1, standoff 0, extent -1.25,-1.6 1.25,1.6

## SMD_OSC_TA 7x5mm [mm]
height 0.85
pads (4):
  rrect32% 1.25x1.6 smd mask+0.075: 1(-1.9,2.5) 2(-1.9,-2.5) 3(1.9,-2.5) 4(1.9,2.5)
Mechanical 3:
  lines w0.1: -1.6,-2.5 1.6,-2.5 1.6,2.5 -1.6,2.5 -1.6,-2.5
  text ".Designator" at 0,0 h1
Mechanical 13:
  lines w0.05: -1.7,-2.6 1.7,-2.6 1.7,2.6 -1.7,2.6 -1.7,-2.6
Mechanical 15:
  circle w0.05: c0,0 r0.35
  lines w0.05: -0.5,0 0.5,0 ; 0,-0.5 0,0.5 ; -2,-2.9 2,-2.9 2,2.9 -2,2.9 -2,-2.9
3D body: height 0.85, standoff 0, extent -1.6,-2.5 1.6,2.5

## SMD_QFN50P900X900X85-65N - BE200 [mm]
pads (65):
  oval 1x0.3 smd mask+0.05: 1(-4.5,3.75) 2(-4.5,3.25) 3(-4.5,2.75) 4(-4.5,2.25) 5(-4.5,1.75) 6(-4.5,1.25) 7(-4.5,0.75) 8(-4.5,0.25) 9(-4.5,-0.25) 10(-4.5,-0.75) 11(-4.5,-1.25) 12(-4.5,-1.75) 13(-4.5,-2.25) 14(-4.5,-2.75) 15(-4.5,-3.25) 16(-4.5,-3.75) 33(4.5,-3.75) 34(4.5,-3.25) 35(4.5,-2.75) 36(4.5,-2.25) 37(4.5,-1.75) 38(4.5,-1.25) 39(4.5,-0.75) 40(4.5,-0.25) 41(4.5,0.25) 42(4.5,0.75) 43(4.5,1.25) 44(4.5,1.75) 45(4.5,2.25) 46(4.5,2.75) 47(4.5,3.25) 48(4.5,3.75)
  oval 0.3x1 smd mask+0.05: 17(-3.75,-4.5) 18(-3.25,-4.5) 19(-2.75,-4.5) 20(-2.25,-4.5) 21(-1.75,-4.5) 22(-1.25,-4.5) 23(-0.75,-4.5) 24(-0.25,-4.5) 25(0.25,-4.5) 26(0.75,-4.5) 27(1.25,-4.5) 28(1.75,-4.5) 29(2.25,-4.5) 30(2.75,-4.5) 31(3.25,-4.5) 32(3.75,-4.5) 49(3.75,4.5) 50(3.25,4.5) 51(2.75,4.5) 52(2.25,4.5) 53(1.75,4.5) 54(1.25,4.5) 55(0.75,4.5) 56(0.25,4.5) 57(-0.25,4.5) 58(-0.75,4.5) 59(-1.25,4.5) 60(-1.75,4.5) 61(-2.25,4.5) 62(-2.75,4.5) 63(-3.25,4.5) 64(-3.75,4.5)
  rect 0.35x0.35 smd paste-0.175: 65(0,0)
via -2.8,-2.8 diameter 0.6 hole 0.3
via -2,-2.8 diameter 0.6 hole 0.3
via -1.2,-2.8 diameter 0.6 hole 0.3
via -0.4,-2.8 diameter 0.6 hole 0.3
via 1.2,-2.8 diameter 0.6 hole 0.3
via 2,-2.8 diameter 0.6 hole 0.3
via 2.8,-2.8 diameter 0.6 hole 0.3
via 0.4,-2.8 diameter 0.6 hole 0.3
via -2.8,-2 diameter 0.6 hole 0.3
via -2,-2 diameter 0.6 hole 0.3
via -1.2,-2 diameter 0.6 hole 0.3
via -0.4,-2 diameter 0.6 hole 0.3
via 1.2,-2 diameter 0.6 hole 0.3
via 2,-2 diameter 0.6 hole 0.3
via 2.8,-2 diameter 0.6 hole 0.3
via 0.4,-2 diameter 0.6 hole 0.3
via -2.8,-1.2 diameter 0.6 hole 0.3
via -2,-1.2 diameter 0.6 hole 0.3
via -1.2,-1.2 diameter 0.6 hole 0.3
via -0.4,-1.2 diameter 0.6 hole 0.3
via 1.2,-1.2 diameter 0.6 hole 0.3
via 2,-1.2 diameter 0.6 hole 0.3
via 2.8,-1.2 diameter 0.6 hole 0.3
via 0.4,-1.2 diameter 0.6 hole 0.3
via -2.8,-0.4 diameter 0.6 hole 0.3
via -2,-0.4 diameter 0.6 hole 0.3
via -1.2,-0.4 diameter 0.6 hole 0.3
via -0.4,-0.4 diameter 0.6 hole 0.3
via 1.2,-0.4 diameter 0.6 hole 0.3
via 2,-0.4 diameter 0.6 hole 0.3
via 2.8,-0.4 diameter 0.6 hole 0.3
via 0.4,-0.4 diameter 0.6 hole 0.3
via -2.8,0.4 diameter 0.6 hole 0.3
via -2,0.4 diameter 0.6 hole 0.3
via -1.2,0.4 diameter 0.6 hole 0.3
via -0.4,0.4 diameter 0.6 hole 0.3
via 1.2,0.4 diameter 0.6 hole 0.3
via 2,0.4 diameter 0.6 hole 0.3
via 2.8,0.4 diameter 0.6 hole 0.3
via 0.4,0.4 diameter 0.6 hole 0.3
via -2.8,1.2 diameter 0.6 hole 0.3
via -2,1.2 diameter 0.6 hole 0.3
via -1.2,1.2 diameter 0.6 hole 0.3
via -0.4,1.2 diameter 0.6 hole 0.3
via 1.2,1.2 diameter 0.6 hole 0.3
via 2,1.2 diameter 0.6 hole 0.3
via 2.8,1.2 diameter 0.6 hole 0.3
via 0.4,1.2 diameter 0.6 hole 0.3
via -2.8,2 diameter 0.6 hole 0.3
via -2,2 diameter 0.6 hole 0.3
via -1.2,2 diameter 0.6 hole 0.3
via -0.4,2 diameter 0.6 hole 0.3
via 1.2,2 diameter 0.6 hole 0.3
via 2,2 diameter 0.6 hole 0.3
via 2.8,2 diameter 0.6 hole 0.3
via 0.4,2 diameter 0.6 hole 0.3
via -2.8,2.8 diameter 0.6 hole 0.3
via -2,2.8 diameter 0.6 hole 0.3
via -1.2,2.8 diameter 0.6 hole 0.3
via -0.4,2.8 diameter 0.6 hole 0.3
via 1.2,2.8 diameter 0.6 hole 0.3
via 2,2.8 diameter 0.6 hole 0.3
via 2.8,2.8 diameter 0.6 hole 0.3
via 0.4,2.8 diameter 0.6 hole 0.3
Top Layer:
  region: 3.75,3.75 -3.25,3.75 -3.75,3.25 -3.75,-3.75 3.75,-3.75
Top Overlay:
  circle w0.25: c-4.35,4.05 r0.125
  lines w0.2: -4,-3.75 -4,-4 -3.75,-4 ; -4,3.75 -4,3.8 -3.8,4 -3.75,4 ; 3.75,-4 4,-4 4,-3.75 ; 3.75,4 4,4 4,3.75
Top Paste:
  region: -2.75,-2.75 -2.75,-1.33 -1.33,-1.33 -1.33,-2.75
  region: -2.75,-0.71 -2.75,0.71 -1.33,0.71 -1.33,-0.71
  region: -2.75,1.33 -2.75,2.75 -1.33,2.75 -1.33,1.33
  region: -0.71,1.33 -0.71,2.75 0.71,2.75 0.71,1.33
  region: 1.33,1.33 1.33,2.75 2.75,2.75 2.75,1.33
  region: 1.33,-0.71 1.33,0.71 2.75,0.71 2.75,-0.71
  region: -0.71,-0.71 -0.71,0.71 0.71,0.71 0.71,-0.71
  region: -0.71,-2.75 -0.71,-1.33 0.71,-1.33 0.71,-2.75
  region: 1.33,-2.75 1.33,-1.33 2.75,-1.33 2.75,-2.75
Top Solder:
  region: -3.4,3.05 -3.05,3.4 3.4,3.4 3.4,-3.4 -3.4,-3.4
Bottom Solder:
  region: -4.5,4.5 4.5,4.5 4.5,-4.5 -4.5,-4.5
Mechanical 3:
  circle w0.1: c-3,3 r0.5
  lines w0.1: -4,-4 -4,4 4,4 4,-4 -4,-4
  text ".Designator" at 0,0 h1
Mechanical 13:
  lines w0.001: -4.05,-4.05 -4.05,4.05 4.05,4.05 4.05,-4.05 -4.05,-4.05
Mechanical 15:
  circle w0.05: c0,0 r0.35
  lines w0.05: -0.5,0 0.5,0 ; 0,-0.5 0,0.5 ; -4.65,-4.65 -4.65,4.65 4.65,4.65 4.65,-4.65 -4.65,-4.65
3D body: height 0.85, standoff 0, extent -4.05,-4.05 4.05,4.05

## SMD_SOT95P280X145-6N-W [mm]
pads (6):
  rrect67% 1.1x0.8 smd mask+0.075: 1(-1.3,0.95) 3(-1.3,-0.95) 4(1.3,-0.95) 6(1.3,0.95)
  rrect67% 1.1x0.6 smd mask+0.075: 2(-1.3,0) 5(1.3,0)
Top Overlay:
  region: -1.738,1.6 -1.785,1.715 -1.9,1.762 -2.015,1.715 -2.062,1.6 -2.015,1.485 -1.9,1.438 -1.785,1.485
  lines w0.2: -0.425,-1.45 0.425,-1.45 0.425,1.45 -0.425,1.45 -0.425,-1.45
Mechanical 3:
  lines w0.1: -0.8,0.55 0.1,1.45 ; -0.8,0.65 0,1.45 ; -0.8,0.75 -0.1,1.45 ; -0.8,0.85 -0.2,1.45 ; -0.8,0.95 -0.3,1.45 ; -0.8,1.05 -0.4,1.45 ; -0.8,1.15 -0.5,1.45 ; -0.8,1.25 -0.6,1.45 ; -0.8,1.35 -0.7,1.45 ; -0.8,-1.45 0.8,-1.45 0.8,1.45 -0.8,1.45 -0.8,-1.45
  text ".Designator" at 0,0 h1
Mechanical 13:
  lines w0.001: -0.875,-1.525 0.875,-1.525 0.875,1.525 -0.875,1.525 -0.875,-1.525
Mechanical 15:
  circle w0.05: c0,0 r0.35
  lines w0.05: -0.5,0 0.5,0 ; 0,-0.5 0,0.5 ; -2.1,-1.8 2.1,-1.8 2.1,1.8 -2.1,1.8 -2.1,-1.8
3D body: height 1.45, standoff 0, extent -1.4,-1.45 1.4,1.45

## SMT_INDM135130X800N [mm]
height 8
pads (2):
  rrect9% 4.35x5.1 smd mask+0.075: 1(-5.125,0) 2(5.125,0)
Top Overlay:
  lines w0.15: -6.725,-2.8 -6.725,-6.475 6.725,-6.475 6.725,-2.8 ; -6.725,2.8 -6.725,6.475 6.725,6.475 6.725,2.8
Mechanical 3:
  lines w0.1: -6.725,-6.475 -6.725,6.475 6.725,6.475 6.725,-6.475 -6.725,-6.475
  text ".Designator" at 0,0 h1
Mechanical 13:
  lines w0.05: -6.73,-6.475 -6.73,6.475 6.73,6.475 6.73,-6.475 -6.73,-6.475
Mechanical 15:
  circle w0.05: c0,0 r0.35
  lines w0.05: -0.5,0 0.5,0 ; 0,-0.5 0,0.5 ; -7.55,-6.725 -7.55,6.725 7.55,6.725 7.55,-6.725 -7.55,-6.725
3D body: height 8, standoff 0, extent -6.26,-6.25 6.26,6.25